# Altium footprint library PcbLib12.PcbLib: 2 footprints
Each footprint in its own frame and in the unit in brackets; x right, y up, seen from the top. Pads: shape width x height; smd on the part's side, far side on the other; paste and mask are expansions set on the pad; w line width, h text height; cw(c..) or ccw(c..) is an arc to the next point about the centre after c.
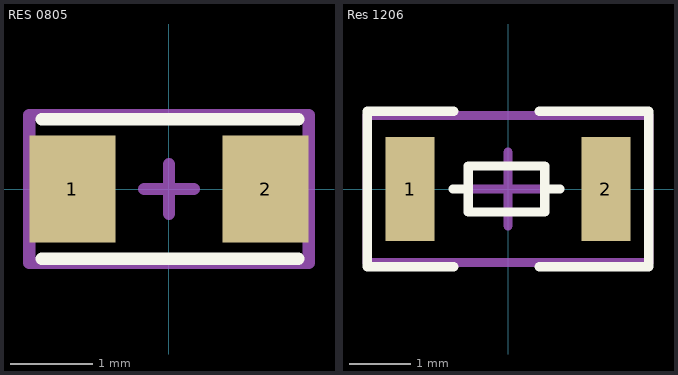
[diagram p0: the footprints below, top view; thin cyan lines are the x and y axes]

## RES 0805 [mm]
pads (2):
  rect 1.05x1.3 smd: 1(-1.175,0) 2(1.175,0)
Top Overlay:
  lines w0.15: -1.55,-0.85 1.575,-0.85 ; -1.55,0.85 1.575,0.85
Mechanical 15:
  lines w0.15: -0.3,0 0.3,0 ; 0,-0.3 0,0.3 ; -1.7,-0.9 -1.7,0.9 1.7,0.9 1.7,-0.9 -1.7,-0.9
3D body: height 0.5, standoff 0, extent -1,-0.6 -0.4,0.6
3D body: height 0.5, standoff 0, extent -0.4,-0.6 0.4,0.6
3D body: height 0.5, standoff 0, extent 0.4,-0.6 1,0.6

## Res 1206 [mm]
pads (2):
  rect 0.8x1.7 smd: 1(-1.6,0) 2(1.6,0)
Top Overlay:
  lines w0.15: -0.9,0 -0.65,0 ; -0.886,-1.27 -2.3,-1.27 -2.3,1.27 -0.886,1.27 ; 0.511,-1.27 2.3,-1.27 2.3,1.27 0.511,1.27 ; 0.85,0 0.6,0 ; -0.65,0 -0.65,0.375 0.6,0.375 0.6,0 ; -0.65,0 -0.65,-0.375 0.6,-0.375 0.6,0
Mechanical 15:
  lines w0.15: -0.6,0 0.6,0 ; 0,-0.6 0,0.6 ; -2.3,-1.2 -2.3,1.2 2.3,1.2 2.3,-1.2 -2.3,-1.2
3D body: height 0.8, standoff 0, extent -1.7,-0.8 -0.9,0.8
3D body: height 0.8, standoff 0, extent -0.9,-0.8 0.9,0.8
3D body: height 0.8, standoff 0, extent 0.9,-0.8 1.7,0.8